# EAGLE library part STM32F302ZET6 (library circuit_tree)
IC
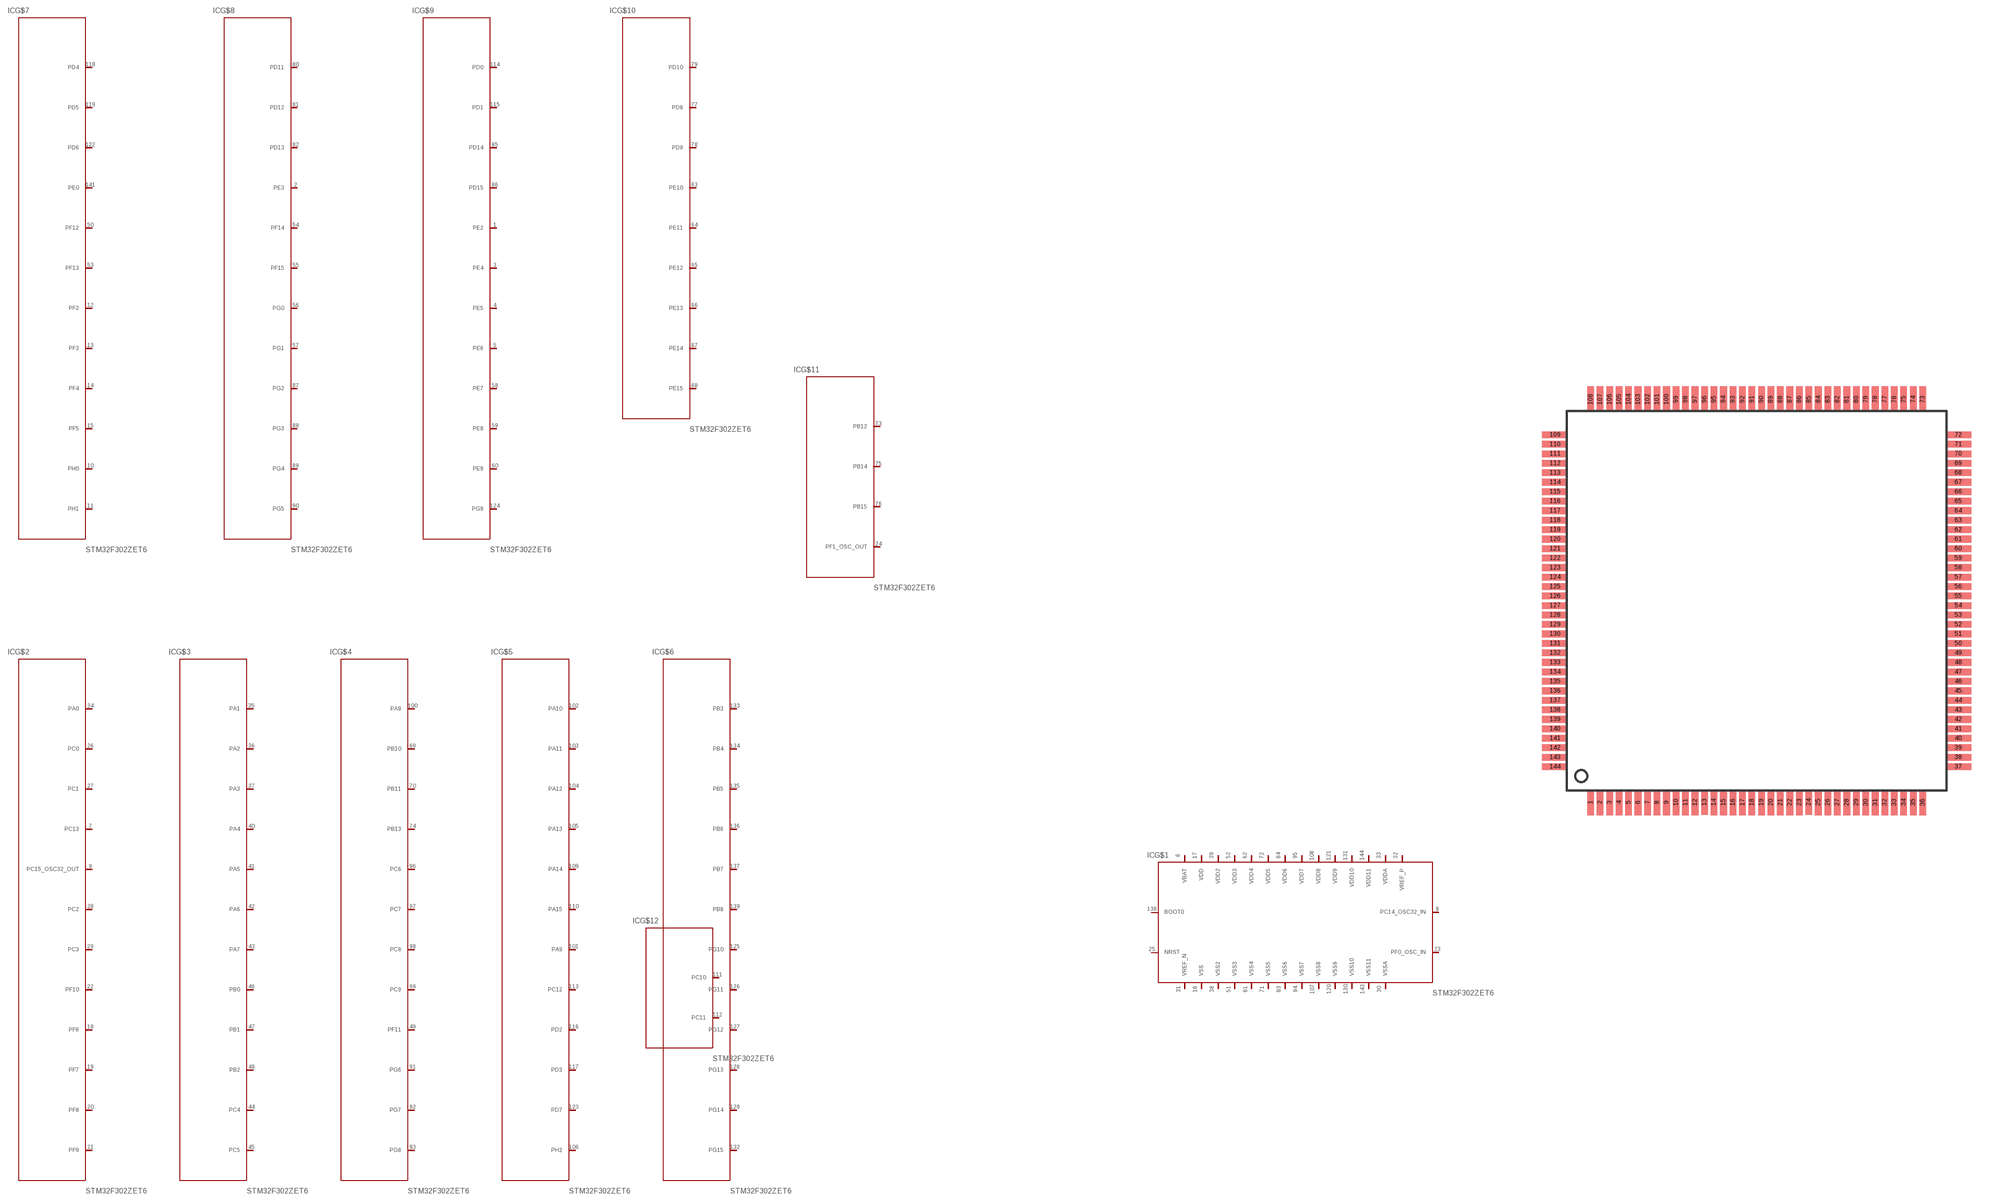
[diagram p7: symbol with the pads of LQFP144; footprint LQFP144]

Designator prefix IC; gates G$1=STM32F302ZET6 G$2=STM32F302ZET62 G$3=STM32F302ZET63 G$4=STM32F302ZET64 G$5=STM32F302ZET65 G$6=STM32F302ZET66 G$7=STM32F302ZET67 G$8=STM32F302ZET68 G$9=STM32F302ZET69 G$10=STM32F302ZET610 G$11=STM32F302ZET611 G$12=STM32F302ZET612

## STM32F302ZET6  [LQFP144]
1  G$9:PE2  pas
2  G$8:PE3  pas
3  G$9:PE4  pas
4  G$9:PE5  pas
5  G$9:PE6  pas
6  G$1:VBAT  pas
7  G$2:PC13  pas
8  G$1:PC14_OSC32_IN  pas
9  G$2:PC15_OSC32_OUT  pas
10  G$7:PH0  pas
11  G$7:PH1  pas
12  G$7:PF2  pas
13  G$7:PF3  pas
14  G$7:PF4  pas
15  G$7:PF5  pas
16  G$1:VSS  pas
17  G$1:VDD  pas
18  G$2:PF6  pas
19  G$2:PF7  pas
20  G$2:PF8  pas
21  G$2:PF9  pas
22  G$2:PF10  pas
23  G$1:PF0_OSC_IN  pas
24  G$11:PF1_OSC_OUT  pas
25  G$1:NRST  pas
26  G$2:PC0  pas
27  G$2:PC1  pas
28  G$2:PC2  pas
29  G$2:PC3  pas
30  G$1:VSSA  pas
31  G$1:VREF_N  pas
32  G$1:VREF_P  pas
33  G$1:VDDA  pas
34  G$2:PA0  pas
35  G$3:PA1  pas
36  G$3:PA2  pas
37  G$3:PA3  pas
38  G$1:VSS2  pas
39  G$1:VDD2  pas
40  G$3:PA4  pas
41  G$3:PA5  pas
42  G$3:PA6  pas
43  G$3:PA7  pas
44  G$3:PC4  pas
45  G$3:PC5  pas
46  G$3:PB0  pas
47  G$3:PB1  pas
48  G$3:PB2  pas
49  G$4:PF11  pas
50  G$7:PF12  pas
51  G$1:VSS3  pas
52  G$1:VDD3  pas
53  G$7:PF13  pas
54  G$8:PF14  pas
55  G$8:PF15  pas
56  G$8:PG0  pas
57  G$8:PG1  pas
58  G$9:PE7  pas
59  G$9:PE8  pas
60  G$9:PE9  pas
61  G$1:VSS4  pas
62  G$1:VDD4  pas
63  G$10:PE10  pas
64  G$10:PE11  pas
65  G$10:PE12  pas
66  G$10:PE13  pas
67  G$10:PE14  pas
68  G$10:PE15  pas
69  G$4:PB10  pas
70  G$4:PB11  pas
71  G$1:VSS5  pas
72  G$1:VDD5  pas
73  G$11:PB12  pas
74  G$4:PB13  pas
75  G$11:PB14  pas
76  G$11:PB15  pas
77  G$10:PD8  pas
78  G$10:PD9  pas
79  G$10:PD10  pas
80  G$8:PD11  pas
81  G$8:PD12  pas
82  G$8:PD13  pas
83  G$1:VSS6  pas
84  G$1:VDD6  pas
85  G$9:PD14  pas
86  G$9:PD15  pas
87  G$8:PG2  pas
88  G$8:PG3  pas
89  G$8:PG4  pas
90  G$8:PG5  pas
91  G$4:PG6  pas
92  G$4:PG7  pas
93  G$4:PG8  pas
94  G$1:VSS7  pas
95  G$1:VDD7  pas
96  G$4:PC6  pas
97  G$4:PC7  pas
98  G$4:PC8  pas
99  G$4:PC9  pas
100  G$4:PA8  pas
101  G$5:PA9  pas
102  G$5:PA10  pas
103  G$5:PA11  pas
104  G$5:PA12  pas
105  G$5:PA13  pas
106  G$5:PH2  pas
107  G$1:VSS8  pas
108  G$1:VDD8  pas
109  G$5:PA14  pas
110  G$5:PA15  pas
111  G$12:PC10  pas
112  G$12:PC11  pas
113  G$5:PC12  pas
114  G$9:PD0  pas
115  G$9:PD1  pas
116  G$5:PD2  pas
117  G$5:PD3  pas
118  G$7:PD4  pas
119  G$7:PD5  pas
120  G$1:VSS9  pas
121  G$1:VDD9  pas
122  G$7:PD6  pas
123  G$5:PD7  pas
124  G$9:PG9  pas
125  G$6:PG10  pas
126  G$6:PG11  pas
127  G$6:PG12  pas
128  G$6:PG13  pas
129  G$6:PG14  pas
130  G$1:VSS10  pas
131  G$1:VDD10  pas
132  G$6:PG15  pas
133  G$6:PB3  pas
134  G$6:PB4  pas
135  G$6:PB5  pas
136  G$6:PB6  pas
137  G$6:PB7  pas
138  G$1:BOOT0  pas
139  G$6:PB8  pas
141  G$7:PE0  pas
143  G$1:VSS11  pas
144  G$1:VDD11  pas

## Footprint LQFP144 (pad centres in mm)
LQFP144 20 x 20 mm, 144-pin low-profile quad flat package
smd 0.35 x 1.35: 1 -8.75,-10.625; 2 -8.25,-10.625; 3 -7.75,-10.625; 4 -7.25,-10.625; 5 -6.75,-10.625; 6 -6.25,-10.625; 7 -5.75,-10.625; 8 -5.25,-10.625; 9 -4.75,-10.625; 10 -4.25,-10.625; 11 -3.75,-10.625; 12 -3.25,-10.625; 13 -2.75,-10.62; 14 -2.25,-10.625; 15 -1.75,-10.625; 16 -1.25,-10.625; 17 -0.75,-10.625; 18 -0.25,-10.625; 19 0.25,-10.625; 20 0.75,-10.625; 21 1.25,-10.625; 22 1.75,-10.625; 23 2.25,-10.625; 24 2.75,-10.62; 25 3.25,-10.625; 26 3.75,-10.625; 27 4.25,-10.625; 28 4.75,-10.625; 29 5.25,-10.625; 30 5.75,-10.625; 31 6.25,-10.625; 32 6.75,-10.625; 33 7.25,-10.625; 34 7.75,-10.625; 35 8.25,-10.625; 36 8.75,-10.625; 73 8.75,10.625; 74 8.25,10.625; 75 7.75,10.625; 76 7.25,10.625; 77 6.75,10.625; 78 6.25,10.625; 79 5.75,10.625; 80 5.25,10.625; 81 4.75,10.625; 82 4.25,10.625; 83 3.75,10.625; 84 3.25,10.625; 85 2.75,10.625; 86 2.25,10.625; 87 1.75,10.625; 88 1.25,10.625; 89 0.75,10.625; 90 0.25,10.625; 91 -0.25,10.625; 92 -0.75,10.625; 93 -1.25,10.625; 94 -1.75,10.625; 95 -2.25,10.625; 96 -2.75,10.625; 97 -3.25,10.625; 98 -3.75,10.625; 99 -4.25,10.625; 100 -4.75,10.625; 101 -5.25,10.625; 102 -5.75,10.625; 103 -6.25,10.625; 104 -6.75,10.625; 105 -7.25,10.625; 106 -7.75,10.625; 107 -8.25,10.625; 108 -8.75,10.625
smd 1.35 x 0.35: 37 10.625,-8.75; 38 10.625,-8.25; 39 10.625,-7.75; 40 10.625,-7.25; 41 10.625,-6.75; 42 10.625,-6.25; 43 10.625,-5.75; 44 10.625,-5.25; 45 10.625,-4.75; 46 10.625,-4.25; 47 10.625,-3.75; 48 10.625,-3.25; 49 10.625,-2.75; 50 10.625,-2.25; 51 10.625,-1.75; 52 10.625,-1.25; 53 10.625,-0.75; 54 10.625,-0.25; 55 10.625,0.25; 56 10.625,0.75; 57 10.625,1.25; 58 10.625,1.75; 59 10.625,2.25; 60 10.625,2.75; 61 10.625,3.25; 62 10.625,3.75; 63 10.625,4.25; 64 10.625,4.75; 65 10.625,5.25; 66 10.625,5.75; 67 10.625,6.25; 68 10.625,6.75; 69 10.625,7.25; 70 10.625,7.75; 71 10.625,8.25; 72 10.625,8.75; 109 -10.625,8.75; 110 -10.625,8.25; 111 -10.625,7.75; 112 -10.625,7.25; 113 -10.625,6.75; 114 -10.625,6.25; 115 -10.625,5.75; 116 -10.625,5.25; 117 -10.625,4.75; 118 -10.625,4.25; 119 -10.625,3.75; 120 -10.625,3.25; 121 -10.625,2.75; 122 -10.625,2.25; 123 -10.625,1.75; 124 -10.625,1.25; 125 -10.625,0.75; 126 -10.625,0.25; 127 -10.625,-0.25; 128 -10.625,-0.75; 129 -10.625,-1.25; 130 -10.625,-1.75; 131 -10.625,-2.25; 132 -10.625,-2.75; 133 -10.625,-3.25; 134 -10.625,-3.75; 135 -10.625,-4.25; 136 -10.625,-4.75; 137 -10.625,-5.25; 138 -10.625,-5.75; 139 -10.625,-6.25; 140 -10.625,-6.75; 141 -10.625,-7.25; 142 -10.625,-7.75; 143 -10.625,-8.25; 144 -10.625,-8.75